# EAGLE library part DIN_32_A_C (library Stecker_Pins)
Messerleiste PCB 32 A & C
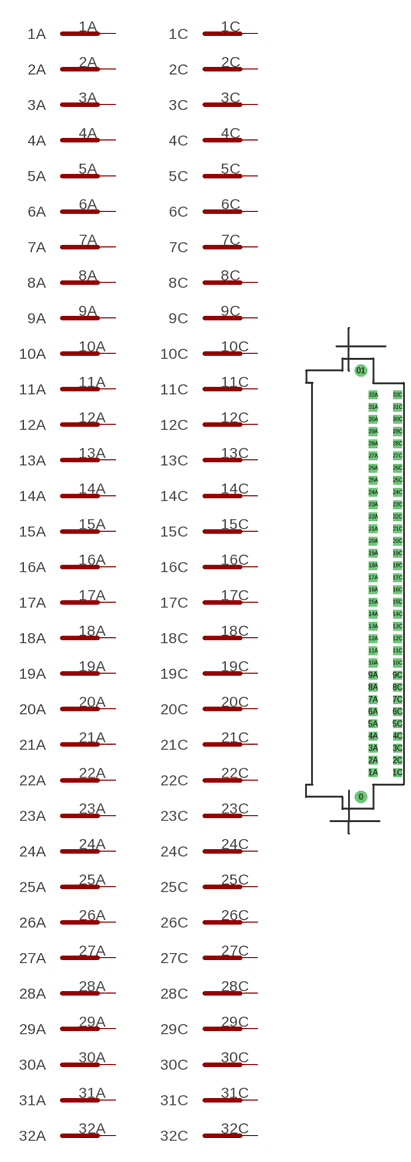
[diagram p18: symbol with the pads of DIN_32A_C; footprint DIN_32A_C]

Designator prefix K

## DIN_32_A_C  [DIN_32A_C]
1A  1A
1C  1C
2A  2A
2C  2C
3A  3A
3C  3C
4A  4A
4C  4C
5A  5A
5C  5C
6A  6A
6C  6C
7A  7A
7C  7C
8A  8A
8C  8C
9A  9A
9C  9C
10A  10A
10C  10C
11A  11A
11C  11C
12A  12A
12C  12C
13A  13A
13C  13C
14A  14A
14C  14C
15A  15A
15C  15C
16A  16A
16C  16C
17A  17A
17C  17C
18A  18A
18C  18C
19A  19A
19C  19C
20A  20A
20C  20C
21A  21A
21C  21C
22A  22A
22C  22C
23A  23A
23C  23C
24A  24A
24C  24C
25A  25A
25C  25C
26A  26A
26C  26C
27A  27A
27C  27C
28A  28A
28C  28C
29A  29A
29C  29C
30A  30A
30C  30C
31A  31A
31C  31C
32A  32A
32C  32C

## Footprint DIN_32A_C (pad centres in mm)
drill 0.6 pad 2.54: 0 0,-44.45
drill 0.813 pad 2.54: 01 0,44.45
drill 0.8 pad 1.778 square: 1A 2.54,-39.37; 1C 7.62,-39.37; 2A 2.54,-36.83; 2C 7.62,-36.83; 3A 2.54,-34.29; 3C 7.62,-34.29; 4A 2.54,-31.75; 4C 7.62,-31.75; 5A 2.54,-29.21; 5C 7.62,-29.21; 6A 2.54,-26.67; 6C 7.62,-26.67; 7A 2.54,-24.13; 7C 7.62,-24.13; 8A 2.54,-21.59; 8C 7.62,-21.59; 9A 2.54,-19.05; 9C 7.62,-19.05; 10A 2.54,-16.51; 10C 7.62,-16.51; 11A 2.54,-13.97; 11C 7.62,-13.97; 12A 2.54,-11.43; 12C 7.62,-11.43; 13A 2.54,-8.89; 13C 7.62,-8.89; 14A 2.54,-6.35; 14C 7.62,-6.35; 15A 2.54,-3.81; 15C 7.62,-3.81; 16A 2.54,-1.27; 16C 7.62,-1.27; 17A 2.54,1.27; 17C 7.62,1.27; 18A 2.54,3.81; 18C 7.62,3.81; 19A 2.54,6.35; 19C 7.62,6.35; 20A 2.54,8.89; 20C 7.62,8.89; 21A 2.54,11.43; 21C 7.62,11.43; 22A 2.54,13.97; 22C 7.62,13.97; 23A 2.54,16.51; 23C 7.62,16.51; 24A 2.54,19.05; 24C 7.62,19.05; 25A 2.54,21.59; 25C 7.62,21.59; 26A 2.54,24.13; 26C 7.62,24.13; 27A 2.54,26.67; 27C 7.62,26.67; 28A 2.54,29.21; 28C 7.62,29.21; 29A 2.54,31.75; 29C 7.62,31.75; 30A 2.54,34.29; 30C 7.62,34.29; 31A 2.54,36.83; 31C 7.62,36.83; 32A 2.54,39.37; 32C 7.62,39.37